# Altium schematic symbol library TI Power Management DC-DC Controller (External Switch).SchLib: 349 symbols (part 7 of 26)
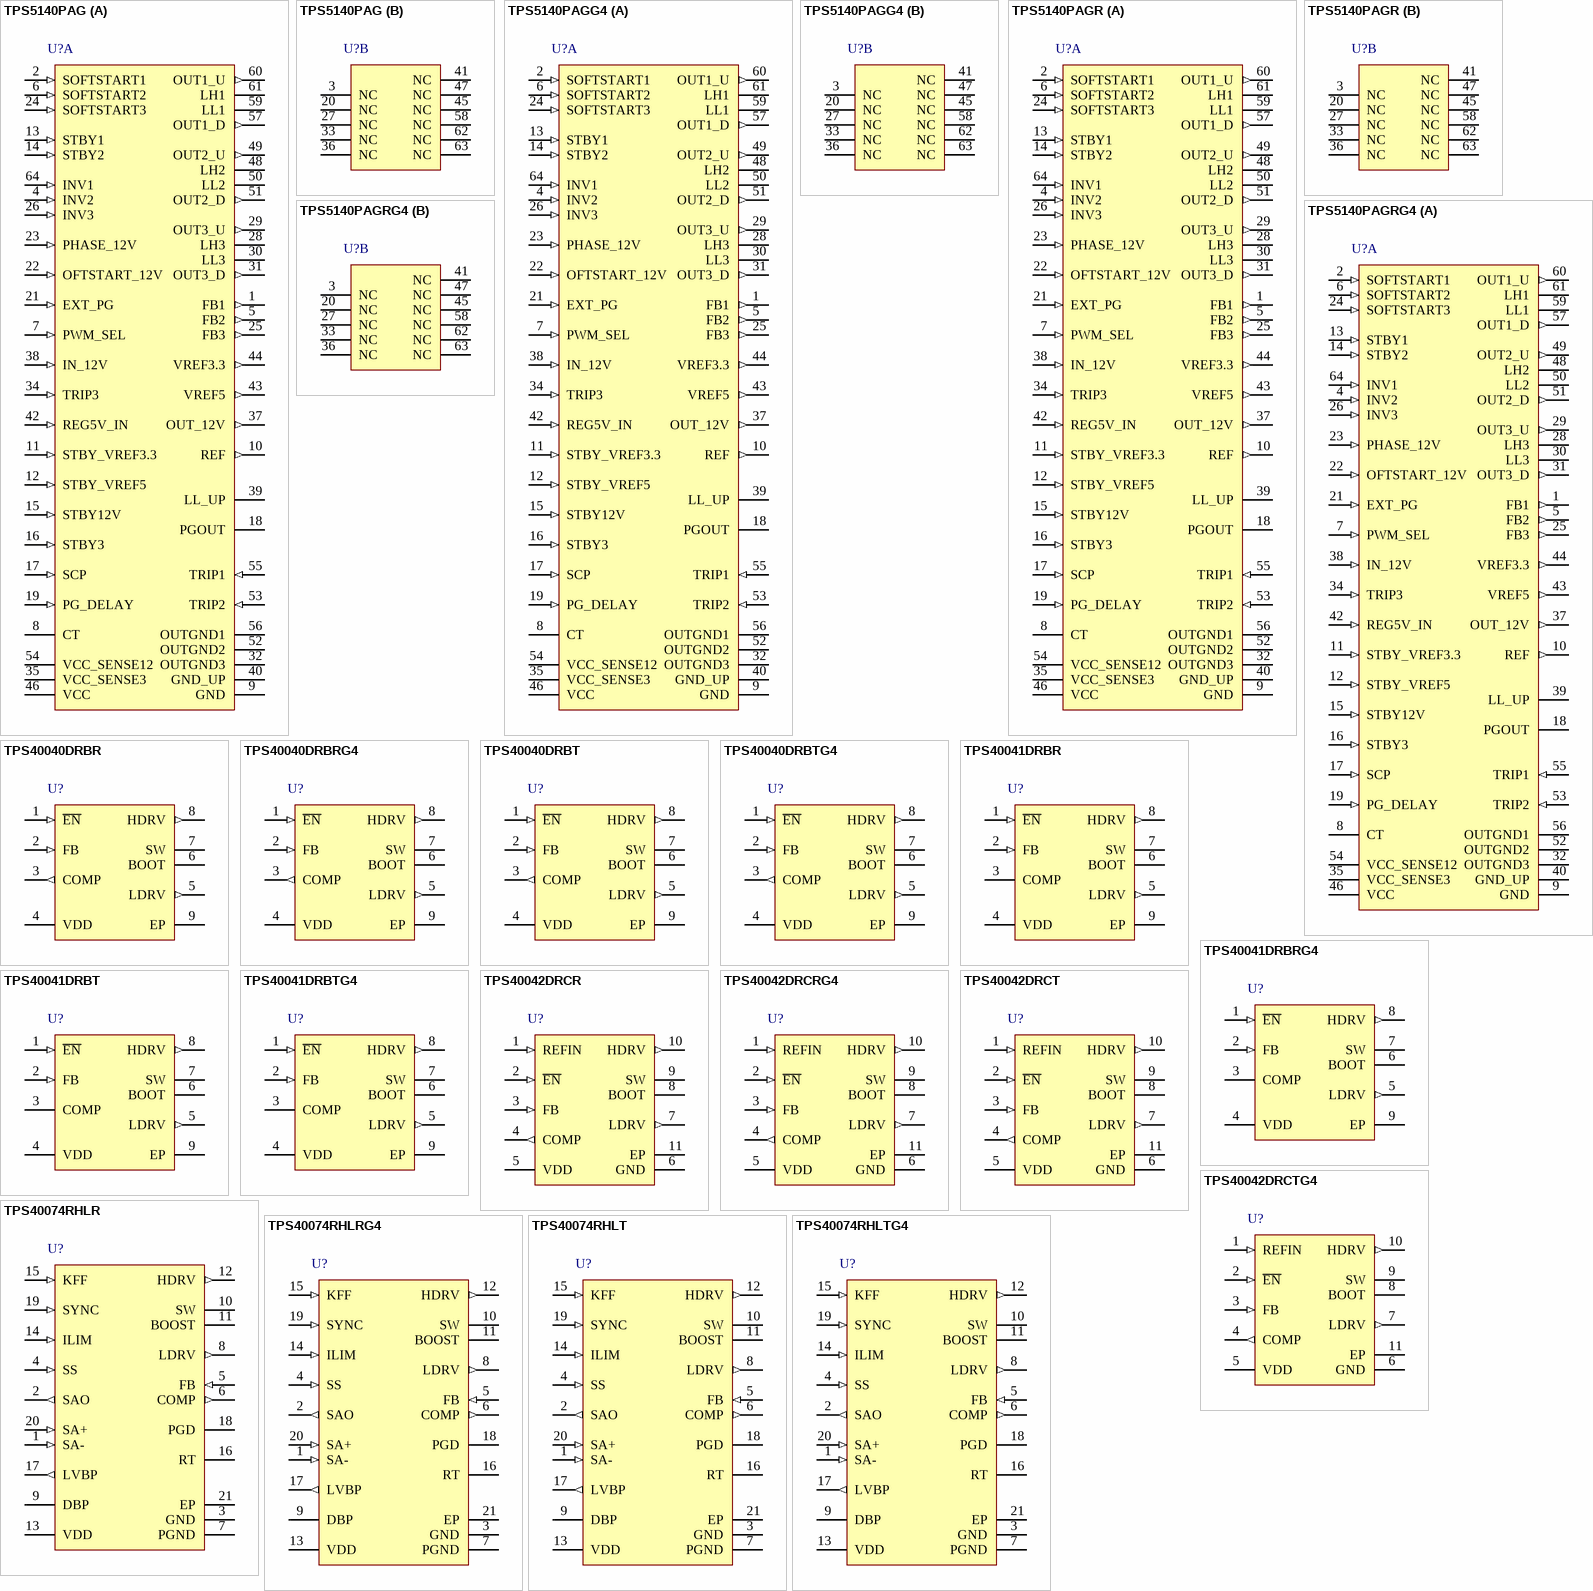
[diagram p20: symbols TPS5140PAG to TPS40074RHLTG4]

## TPS40074RHLRG4
designator U?
Mid Range Input Synchronous Buck Controller with Voltage Feed-Forward, 84 % Duty Cycle, 4.5 to 28 V, -40 to 85 degC, 20-pin QFN (RHL), Green (RoHS & no Sb/Br); Manufacturer: Texas Instruments; PartNumber: TPS40074RHLRG4; Duty Cycle(Max)(%): 84; Iout(Max)(A): 20; Regulated Outputs(#): 1; SubFamily: Step-Down Controller; Switching Frequency(Max)(kHz): 1000; Synchronous Rectification: TRUE; Vin(Max)(V): 28; Vin(Min)(V): 4.5; Vout(Max)(V): 23; Vout(Min)(V): 0.7; DatasheetVersion: SLUS617B; PackageVersion: revJ, Dec-2011; PackageReference: RHL20-3050X2050TP; PackageDescription: 20-Leads Plastic Quad Flatpack No-Lead, 4.5 x 3.5 x 0.9 mm Body, 0.5 mm Pitch, Exposed Pad; Supplier 1: Digi-Key; Supplier Part Number 1: TPS40074RHLRG4-ND; Eco-Plan: Green (RoHS & no Sb/Br); Topology: Buck; Mounting Technology: Surface Mount; ComponentLink1Description: Datasheet; ComponentLink1URL: http://www.ti.com/general/docs/lit/getliterature.tsp?genericPartNumber=TPS40074&fileType=pdf; ComponentLink2Description: Package Specification; ComponentLink2URL: http://www.ti.com/litv/pdf/mpqf155i
footprint RHL20-3050X2050TP (QFN, 20-Leads, Body 4.5x3.5mm, Pitch 0.5mm, Thermal Pad 3.05x2.05mm, TI Recommended)
pins: 1 SA- (in) "Inverting input of the remote voltage sense amplifier.", 2 SAO (out) "Output of the remote voltage sense amplifier.", 3 GND (power) "Ground reference for the device.", 4 SS (in) "Soft-start programming pin. A capacitor connected from this pin to GND programs the soft-start time. The capacitor is charged with an internal current source of 12 uA. The resulting voltage ramp on the SS pin is used as a (See Datasheet)", 5 FB (in) "Inverting input to the error amplifier. In normal operation the voltage on this pin is equal to the internal reference voltage, 0.7 V.", 6 COMP (out) "Output of the error amplifier, input to the PWM comparator. A feedback network is connected from this pin to the FB pin to compensate the overall loop. This pin is internally clamped to a 3.4-V maximum output drive (See Datasheet)", 7 PGND (power) "Power ground reference for the device. There should be a low-impedance path from this pin to the source(s) of the lower MOSFET(s).", 8 LDRV (out) "Gate drive for the N-channel synchronous rectifier. This pin switches from DBP (MOSFET on) to PGND (MOSFET off). For proper operation, the total gate charge of the MOSFET connected to LDRV should be less than 50nC.", 9 DBP (power) "8-V regulator output used for the gate drive of the N-channel synchronous rectifier and as the supply for charging the bootstrap capacitor. This pin should be bypassed to ground with a 1.0-uF ceramic capacitor.", 10 SW (power) "This pin is connected to the switched node of the converter and used for overcurrent sensing as well as gate drive timing. This pin is also the return path from the high-side FET for the floating high-side FET driver. A 1.(See Datasheet)", 11 BOOST (power) "The BOOST voltage is 8-V greater than the input voltage. The peak voltage on BOOST is equal to the SW node voltage plus the voltage present at DBP less the bootstrap diode drop. This drop can be 1.4 V for the internal (See Datasheet)", 12 HDRV (out) "Floating gate drive for the high-side N-channel MOSFET. This pin switches from BOOST (MOSFET on) to SW (MOSFET off).", 13 VDD (power) "Supply voltage for the device.", 14 ILIM (in) "Short circuit protection programming pin. This pin is used to set the overcurrent threshold. An internal current sink from this pin to ground sets a voltage drop across an external resistor connected from this pin to VDD. (See Datasheet)", 15 KFF (in) "A resistor is connected from this pin to VDD programs the amount of input voltage feed-forward. The current fed into this pin is used to control the slope of the PWM ramp and program undervoltage lockout. Nominal voltage at (See Datasheet)", 16 RT "A resistor is connected from this pin to GND to set the switching frequency.", 17 LVBP (out) "4.2-V reference used for internal device logic and analog functions. This pin should be bypassed to GND with a 0.1-uF ceramic capacitor. External loads less than 1 mA and electrically quiet may be applied.", 18 PGD (oc) "This is an open drain output that pulls to ground when soft start is active, or when the FB pin is outside a +/-10% band around the 700 mV reference voltage.", 19 SYNC (in) "Logic input for pulse train to synchronize oscillator.", 20 SA+ (in) "Noninverting input of the remote voltage sense amplifier.", 21 EP (power) "Exposed Thermal Pad"

## TPS40074RHLT
designator U?
Mid Range Input Synchronous Buck Controller with Voltage Feed-Forward, 84 % Duty Cycle, 4.5 to 28 V, -40 to 85 degC, 20-pin QFN (RHL), Green (RoHS & no Sb/Br); Manufacturer: Texas Instruments; PartNumber: TPS40074RHLT; Duty Cycle(Max)(%): 84; Iout(Max)(A): 20; Regulated Outputs(#): 1; SubFamily: Step-Down Controller; Switching Frequency(Max)(kHz): 1000; Synchronous Rectification: TRUE; Vin(Max)(V): 28; Vin(Min)(V): 4.5; Vout(Max)(V): 23; Vout(Min)(V): 0.7; DatasheetVersion: SLUS617B; PackageVersion: revJ, Dec-2011; PackageReference: RHL20-3050X2050TP; PackageDescription: 20-Leads Plastic Quad Flatpack No-Lead, 4.5 x 3.5 x 0.9 mm Body, 0.5 mm Pitch, Exposed Pad; Supplier 1: Digi-Key; Supplier Part Number 1: TPS40074RHLT-ND; Eco-Plan: Green (RoHS & no Sb/Br); Topology: Buck; Mounting Technology: Surface Mount; ComponentLink1Description: Datasheet; ComponentLink1URL: http://www.ti.com/general/docs/lit/getliterature.tsp?genericPartNumber=TPS40074&fileType=pdf; ComponentLink2Description: Package Specification; ComponentLink2URL: http://www.ti.com/litv/pdf/mpqf155i
footprint RHL20-3050X2050TP (QFN, 20-Leads, Body 4.5x3.5mm, Pitch 0.5mm, Thermal Pad 3.05x2.05mm, TI Recommended)
pins: 1 SA- (in) "Inverting input of the remote voltage sense amplifier.", 2 SAO (out) "Output of the remote voltage sense amplifier.", 3 GND (power) "Ground reference for the device.", 4 SS (in) "Soft-start programming pin. A capacitor connected from this pin to GND programs the soft-start time. The capacitor is charged with an internal current source of 12 uA. The resulting voltage ramp on the SS pin is used as a (See Datasheet)", 5 FB (in) "Inverting input to the error amplifier. In normal operation the voltage on this pin is equal to the internal reference voltage, 0.7 V.", 6 COMP (out) "Output of the error amplifier, input to the PWM comparator. A feedback network is connected from this pin to the FB pin to compensate the overall loop. This pin is internally clamped to a 3.4-V maximum output drive (See Datasheet)", 7 PGND (power) "Power ground reference for the device. There should be a low-impedance path from this pin to the source(s) of the lower MOSFET(s).", 8 LDRV (out) "Gate drive for the N-channel synchronous rectifier. This pin switches from DBP (MOSFET on) to PGND (MOSFET off). For proper operation, the total gate charge of the MOSFET connected to LDRV should be less than 50nC.", 9 DBP (power) "8-V regulator output used for the gate drive of the N-channel synchronous rectifier and as the supply for charging the bootstrap capacitor. This pin should be bypassed to ground with a 1.0-uF ceramic capacitor.", 10 SW (power) "This pin is connected to the switched node of the converter and used for overcurrent sensing as well as gate drive timing. This pin is also the return path from the high-side FET for the floating high-side FET driver. A 1.(See Datasheet)", 11 BOOST (power) "The BOOST voltage is 8-V greater than the input voltage. The peak voltage on BOOST is equal to the SW node voltage plus the voltage present at DBP less the bootstrap diode drop. This drop can be 1.4 V for the internal (See Datasheet)", 12 HDRV (out) "Floating gate drive for the high-side N-channel MOSFET. This pin switches from BOOST (MOSFET on) to SW (MOSFET off).", 13 VDD (power) "Supply voltage for the device.", 14 ILIM (in) "Short circuit protection programming pin. This pin is used to set the overcurrent threshold. An internal current sink from this pin to ground sets a voltage drop across an external resistor connected from this pin to VDD. (See Datasheet)", 15 KFF (in) "A resistor is connected from this pin to VDD programs the amount of input voltage feed-forward. The current fed into this pin is used to control the slope of the PWM ramp and program undervoltage lockout. Nominal voltage at (See Datasheet)", 16 RT "A resistor is connected from this pin to GND to set the switching frequency.", 17 LVBP (out) "4.2-V reference used for internal device logic and analog functions. This pin should be bypassed to GND with a 0.1-uF ceramic capacitor. External loads less than 1 mA and electrically quiet may be applied.", 18 PGD (oc) "This is an open drain output that pulls to ground when soft start is active, or when the FB pin is outside a +/-10% band around the 700 mV reference voltage.", 19 SYNC (in) "Logic input for pulse train to synchronize oscillator.", 20 SA+ (in) "Noninverting input of the remote voltage sense amplifier.", 21 EP (power) "Exposed Thermal Pad"

## TPS40074RHLTG4
designator U?
Mid Range Input Synchronous Buck Controller with Voltage Feed-Forward, 84 % Duty Cycle, 4.5 to 28 V, -40 to 85 degC, 20-pin QFN (RHL), Green (RoHS & no Sb/Br); Manufacturer: Texas Instruments; PartNumber: TPS40074RHLTG4; Duty Cycle(Max)(%): 84; Iout(Max)(A): 20; Regulated Outputs(#): 1; SubFamily: Step-Down Controller; Switching Frequency(Max)(kHz): 1000; Synchronous Rectification: TRUE; Vin(Max)(V): 28; Vin(Min)(V): 4.5; Vout(Max)(V): 23; Vout(Min)(V): 0.7; DatasheetVersion: SLUS617B; PackageVersion: revJ, Dec-2011; PackageReference: RHL20-3050X2050TP; PackageDescription: 20-Leads Plastic Quad Flatpack No-Lead, 4.5 x 3.5 x 0.9 mm Body, 0.5 mm Pitch, Exposed Pad; Supplier 1: Digi-Key; Supplier Part Number 1: TPS40074RHLTG4-ND; Eco-Plan: Green (RoHS & no Sb/Br); Topology: Buck; Mounting Technology: Surface Mount; ComponentLink1Description: Datasheet; ComponentLink1URL: http://www.ti.com/general/docs/lit/getliterature.tsp?genericPartNumber=TPS40074&fileType=pdf; ComponentLink2Description: Package Specification; ComponentLink2URL: http://www.ti.com/litv/pdf/mpqf155i
footprint RHL20-3050X2050TP (QFN, 20-Leads, Body 4.5x3.5mm, Pitch 0.5mm, Thermal Pad 3.05x2.05mm, TI Recommended)
pins: 1 SA- (in) "Inverting input of the remote voltage sense amplifier.", 2 SAO (out) "Output of the remote voltage sense amplifier.", 3 GND (power) "Ground reference for the device.", 4 SS (in) "Soft-start programming pin. A capacitor connected from this pin to GND programs the soft-start time. The capacitor is charged with an internal current source of 12 uA. The resulting voltage ramp on the SS pin is used as a (See Datasheet)", 5 FB (in) "Inverting input to the error amplifier. In normal operation the voltage on this pin is equal to the internal reference voltage, 0.7 V.", 6 COMP (out) "Output of the error amplifier, input to the PWM comparator. A feedback network is connected from this pin to the FB pin to compensate the overall loop. This pin is internally clamped to a 3.4-V maximum output drive (See Datasheet)", 7 PGND (power) "Power ground reference for the device. There should be a low-impedance path from this pin to the source(s) of the lower MOSFET(s).", 8 LDRV (out) "Gate drive for the N-channel synchronous rectifier. This pin switches from DBP (MOSFET on) to PGND (MOSFET off). For proper operation, the total gate charge of the MOSFET connected to LDRV should be less than 50nC.", 9 DBP (power) "8-V regulator output used for the gate drive of the N-channel synchronous rectifier and as the supply for charging the bootstrap capacitor. This pin should be bypassed to ground with a 1.0-uF ceramic capacitor.", 10 SW (power) "This pin is connected to the switched node of the converter and used for overcurrent sensing as well as gate drive timing. This pin is also the return path from the high-side FET for the floating high-side FET driver. A 1.(See Datasheet)", 11 BOOST (power) "The BOOST voltage is 8-V greater than the input voltage. The peak voltage on BOOST is equal to the SW node voltage plus the voltage present at DBP less the bootstrap diode drop. This drop can be 1.4 V for the internal (See Datasheet)", 12 HDRV (out) "Floating gate drive for the high-side N-channel MOSFET. This pin switches from BOOST (MOSFET on) to SW (MOSFET off).", 13 VDD (power) "Supply voltage for the device.", 14 ILIM (in) "Short circuit protection programming pin. This pin is used to set the overcurrent threshold. An internal current sink from this pin to ground sets a voltage drop across an external resistor connected from this pin to VDD. (See Datasheet)", 15 KFF (in) "A resistor is connected from this pin to VDD programs the amount of input voltage feed-forward. The current fed into this pin is used to control the slope of the PWM ramp and program undervoltage lockout. Nominal voltage at (See Datasheet)", 16 RT "A resistor is connected from this pin to GND to set the switching frequency.", 17 LVBP (out) "4.2-V reference used for internal device logic and analog functions. This pin should be bypassed to GND with a 0.1-uF ceramic capacitor. External loads less than 1 mA and electrically quiet may be applied.", 18 PGD (oc) "This is an open drain output that pulls to ground when soft start is active, or when the FB pin is outside a +/-10% band around the 700 mV reference voltage.", 19 SYNC (in) "Logic input for pulse train to synchronize oscillator.", 20 SA+ (in) "Noninverting input of the remote voltage sense amplifier.", 21 EP (power) "Exposed Thermal Pad"

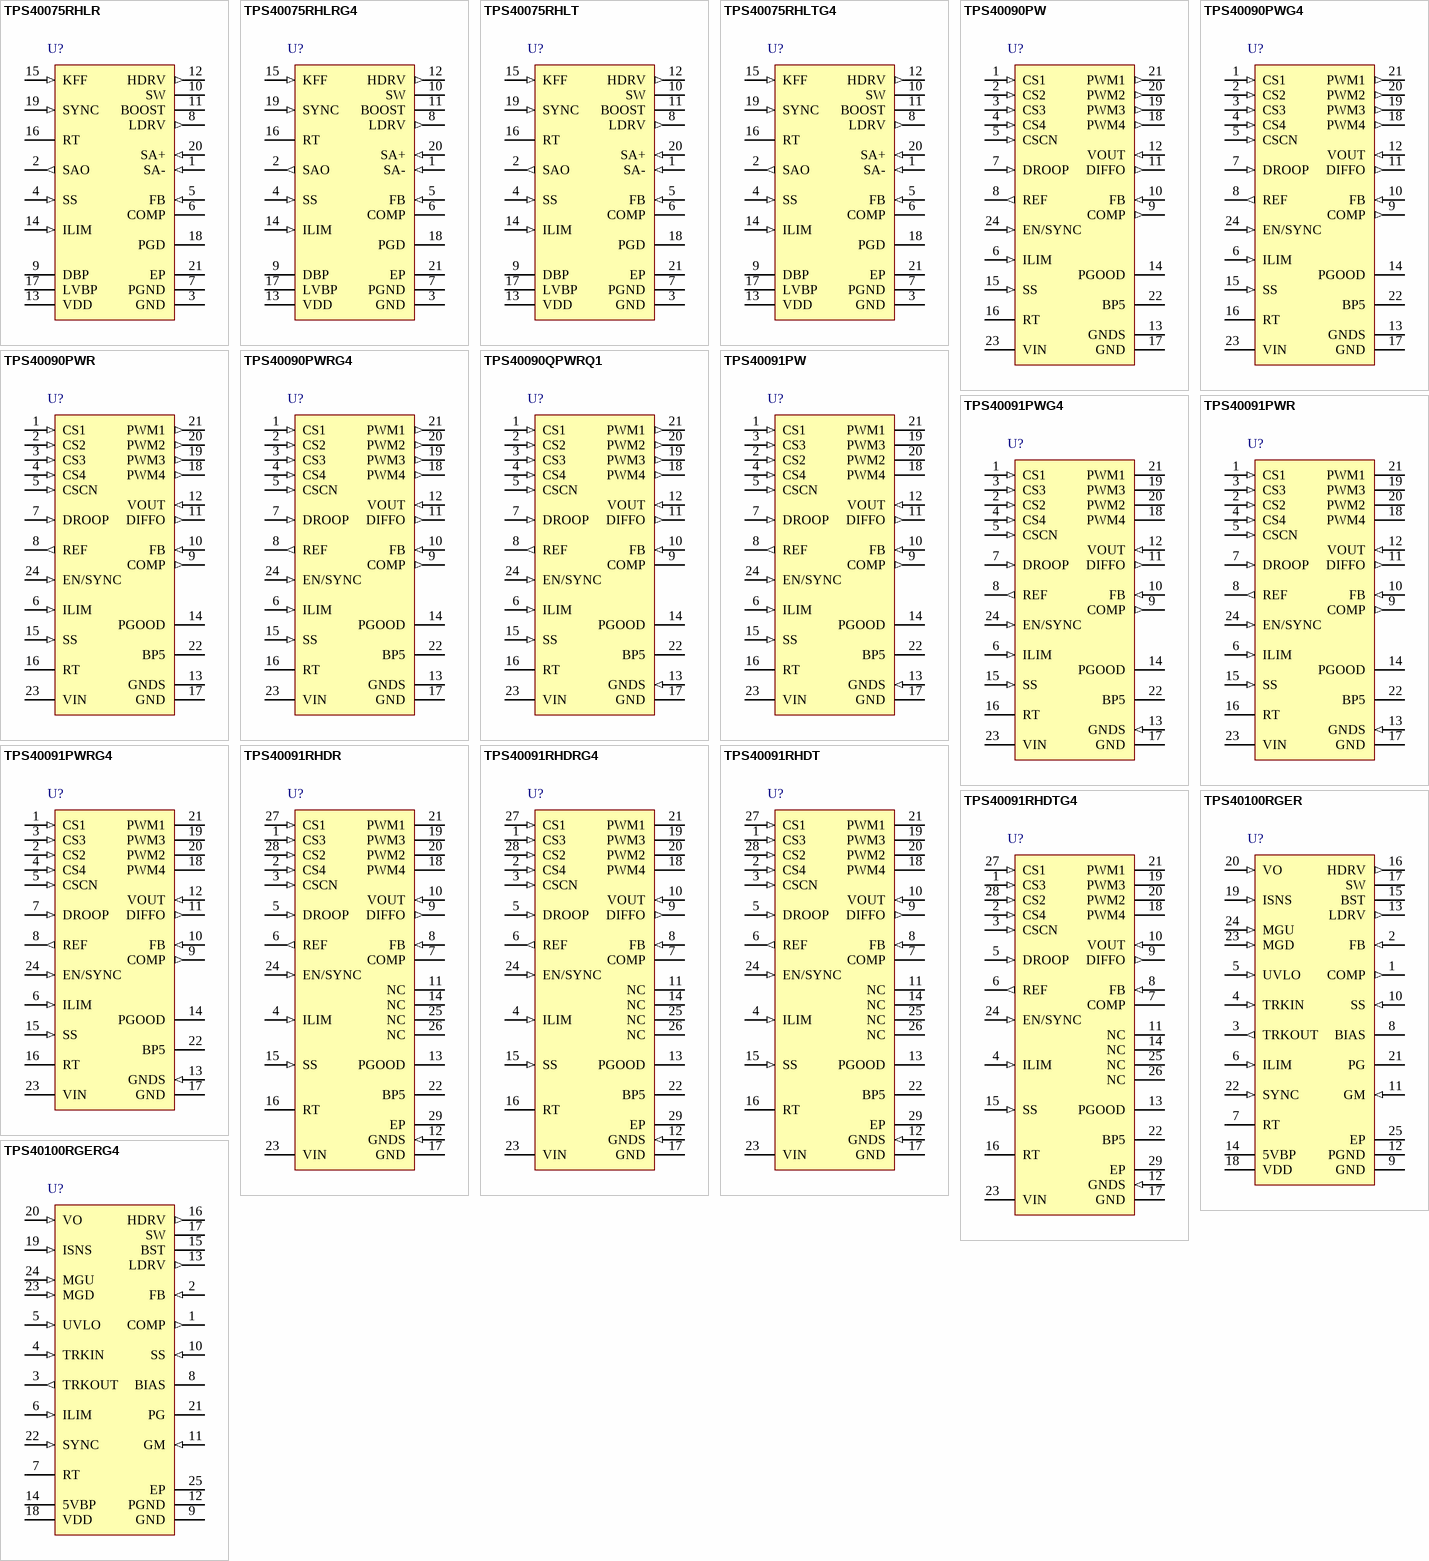
[diagram p5: symbols TPS40075RHLR to TPS40100RGERG4]

## TPS40075RHLR
designator U?
Wide Input Synchronous Buck Controller with Voltage Feed Forward, 84 % Duty Cycle, 4.5 to 28 V, -40 to 85 degC, 20-pin QFN (RHL), Green (RoHS & no Sb/Br); Manufacturer: Texas Instruments; PartNumber: TPS40075RHLR; Duty Cycle(Max)(%): 84; Iout(Max)(A): 20; Regulated Outputs(#): 1; SubFamily: Step-Down Controller; Switching Frequency(Max)(kHz): 1000; Synchronous Rectification: TRUE; Vin(Max)(V): 28; Vin(Min)(V): 4.5; Vout(Max)(V): 23; Vout(Min)(V): 0.7; DatasheetVersion: SLUS676A; PackageVersion: revJ, Dec-2011; PackageReference: RHL20-3050X2050TP; PackageDescription: 20-Leads Plastic Quad Flatpack No-Lead, 4.5 x 3.5 x 0.9 mm Body, 0.5 mm Pitch, Exposed Pad; Supplier 1: Digi-Key; Supplier Part Number 1: TPS40075RHLR-ND; Eco-Plan: Green (RoHS & no Sb/Br); Topology: Buck; Mounting Technology: Surface Mount; ComponentLink1Description: Datasheet; ComponentLink1URL: http://www.ti.com/general/docs/lit/getliterature.tsp?genericPartNumber=TPS40075&fileType=pdf; ComponentLink2Description: Package Specification; ComponentLink2URL: http://www.ti.com/litv/pdf/mpqf155i
footprint RHL20-3050X2050TP (QFN, 20-Leads, Body 4.5x3.5mm, Pitch 0.5mm, Thermal Pad 3.05x2.05mm, TI Recommended)
pins: 1 SA- (in) "Inverting input of the remote voltage sense amplifier.", 2 SAO (out) "Output of the remote voltage sense amplifier.", 3 GND (power) "Ground reference for the device.", 4 SS (in) "Soft-start programming pin. A capacitor connected from this pin to GND programs the soft-start time. The capacitor is charged with an internal current source of 12 uA. The resulting voltage ramp on the SS pin is used as a (See Datasheet)", 5 FB (in) "Inverting input to the error amplifier. In normal operation the voltage on this pin is equal to the internal reference voltage, 0.7 V.", 6 COMP "Output of the error amplifier, input to the PWM comparator. A feedback network is connected from this pin to the FB pin to compensate the overall loop. This pin is internally clamped to a 3.4-V maximum output drive (See Datasheet)", 7 PGND (power) "Power ground reference for the device. There should be a low-impedance path from this pin to the source(s) of the lower MOSFET(s).", 8 LDRV (out) "Gate drive for the N-channel synchronous rectifier. This pin switches from DBP (MOSFET on) to PGND (MOSFET off). For proper operation, the total gate charge of the MOSFET connected to LDRV should be less than 50nC.", 9 DBP (power) "8-V regulator output used for the gate drive of the N-channel synchronous rectifier and as the supply for charging the bootstrap capacitor. This pin should be bypassed to ground with a 1.0-uF ceramic capacitor.", 10 SW (power) "This pin is connected to the switched node of the converter and used for overcurrent sensing as well as gate drive timing. This pin is also the return path from the high-side FET for the floating high-side FET driver. A 1.(See Datasheet)", 11 BOOST (power) "The BOOST voltage is 8-V greater than the input voltage. The peak voltage on BOOST is equal to the SW node voltage plus the voltage present at DBP less the bootstrap diode drop. This drop can be 1.4 V for the internal (See Datasheet)", 12 HDRV (out) "Floating gate drive for the high-side N-channel MOSFET. This pin switches from BOOST (MOSFET on) to SW (MOSFET off).", 13 VDD (power) "Supply voltage for the device.", 14 ILIM (in) "Short circuit protection programming pin. This pin is used to set the overcurrent threshold. An internal current sink from this pin to ground sets a voltage drop across an external resistor connected from this pin to VDD. (See Datasheet)", 15 KFF (in) "A resistor is connected from this pin to VDD programs the amount of input voltage feed-forward. The current fed into this pin is used to control the slope of the PWM ramp and program undervoltage lockout. Nominal voltage at (See Datasheet)", 16 RT "A resistor is connected from this pin to GND to set the switching frequency.", 17 LVBP (power) "4.2-V reference used for internal device logic and analog functions. This pin should be bypassed to GND with a 0.1-uF ceramic capacitor. External loads less than 1 mA and electrically quiet may be applied.", 18 PGD (oc) "This is an open drain output that pulls to ground when soft start is active, or when the FB pin is outside a +/-10% band around the 700 mV reference voltage.", 19 SYNC (in) "Logic input for pulse train to synchronize oscillator.", 20 SA+ (in) "Noninverting input of the remote voltage sense amplifier.", 21 EP "Exposed Thermal Pad."

## TPS40075RHLRG4
designator U?
Wide Input Synchronous Buck Controller with Voltage Feed Forward, 84 % Duty Cycle, 4.5 to 28 V, -40 to 85 degC, 20-pin QFN (RHL), Green (RoHS & no Sb/Br); Manufacturer: Texas Instruments; PartNumber: TPS40075RHLRG4; Duty Cycle(Max)(%): 84; Iout(Max)(A): 20; Regulated Outputs(#): 1; SubFamily: Step-Down Controller; Switching Frequency(Max)(kHz): 1000; Synchronous Rectification: TRUE; Vin(Max)(V): 28; Vin(Min)(V): 4.5; Vout(Max)(V): 23; Vout(Min)(V): 0.7; DatasheetVersion: SLUS676A; PackageVersion: revJ, Dec-2011; PackageReference: RHL20-3050X2050TP; PackageDescription: 20-Leads Plastic Quad Flatpack No-Lead, 4.5 x 3.5 x 0.9 mm Body, 0.5 mm Pitch, Exposed Pad; Supplier 1: Digi-Key; Supplier Part Number 1: TPS40075RHLRG4-ND; Eco-Plan: Green (RoHS & no Sb/Br); Topology: Buck; Mounting Technology: Surface Mount; ComponentLink1Description: Datasheet; ComponentLink1URL: http://www.ti.com/general/docs/lit/getliterature.tsp?genericPartNumber=TPS40075&fileType=pdf; ComponentLink2Description: Package Specification; ComponentLink2URL: http://www.ti.com/litv/pdf/mpqf155i
footprint RHL20-3050X2050TP (QFN, 20-Leads, Body 4.5x3.5mm, Pitch 0.5mm, Thermal Pad 3.05x2.05mm, TI Recommended)
pins: 1 SA- (in) "Inverting input of the remote voltage sense amplifier.", 2 SAO (out) "Output of the remote voltage sense amplifier.", 3 GND (power) "Ground reference for the device.", 4 SS (in) "Soft-start programming pin. A capacitor connected from this pin to GND programs the soft-start time. The capacitor is charged with an internal current source of 12 uA. The resulting voltage ramp on the SS pin is used as a (See Datasheet)", 5 FB (in) "Inverting input to the error amplifier. In normal operation the voltage on this pin is equal to the internal reference voltage, 0.7 V.", 6 COMP "Output of the error amplifier, input to the PWM comparator. A feedback network is connected from this pin to the FB pin to compensate the overall loop. This pin is internally clamped to a 3.4-V maximum output drive (See Datasheet)", 7 PGND (power) "Power ground reference for the device. There should be a low-impedance path from this pin to the source(s) of the lower MOSFET(s).", 8 LDRV (out) "Gate drive for the N-channel synchronous rectifier. This pin switches from DBP (MOSFET on) to PGND (MOSFET off). For proper operation, the total gate charge of the MOSFET connected to LDRV should be less than 50nC.", 9 DBP (power) "8-V regulator output used for the gate drive of the N-channel synchronous rectifier and as the supply for charging the bootstrap capacitor. This pin should be bypassed to ground with a 1.0-uF ceramic capacitor.", 10 SW (power) "This pin is connected to the switched node of the converter and used for overcurrent sensing as well as gate drive timing. This pin is also the return path from the high-side FET for the floating high-side FET driver. A 1.(See Datasheet)", 11 BOOST (power) "The BOOST voltage is 8-V greater than the input voltage. The peak voltage on BOOST is equal to the SW node voltage plus the voltage present at DBP less the bootstrap diode drop. This drop can be 1.4 V for the internal (See Datasheet)", 12 HDRV (out) "Floating gate drive for the high-side N-channel MOSFET. This pin switches from BOOST (MOSFET on) to SW (MOSFET off).", 13 VDD (power) "Supply voltage for the device.", 14 ILIM (in) "Short circuit protection programming pin. This pin is used to set the overcurrent threshold. An internal current sink from this pin to ground sets a voltage drop across an external resistor connected from this pin to VDD. (See Datasheet)", 15 KFF (in) "A resistor is connected from this pin to VDD programs the amount of input voltage feed-forward. The current fed into this pin is used to control the slope of the PWM ramp and program undervoltage lockout. Nominal voltage at (See Datasheet)", 16 RT "A resistor is connected from this pin to GND to set the switching frequency.", 17 LVBP (power) "4.2-V reference used for internal device logic and analog functions. This pin should be bypassed to GND with a 0.1-uF ceramic capacitor. External loads less than 1 mA and electrically quiet may be applied.", 18 PGD (oc) "This is an open drain output that pulls to ground when soft start is active, or when the FB pin is outside a +/-10% band around the 700 mV reference voltage.", 19 SYNC (in) "Logic input for pulse train to synchronize oscillator.", 20 SA+ (in) "Noninverting input of the remote voltage sense amplifier.", 21 EP "Exposed Thermal Pad."

## TPS40075RHLT
designator U?
Wide Input Synchronous Buck Controller with Voltage Feed Forward, 84 % Duty Cycle, 4.5 to 28 V, -40 to 85 degC, 20-pin QFN (RHL), Green (RoHS & no Sb/Br); Manufacturer: Texas Instruments; PartNumber: TPS40075RHLT; Duty Cycle(Max)(%): 84; Iout(Max)(A): 20; Regulated Outputs(#): 1; SubFamily: Step-Down Controller; Switching Frequency(Max)(kHz): 1000; Synchronous Rectification: TRUE; Vin(Max)(V): 28; Vin(Min)(V): 4.5; Vout(Max)(V): 23; Vout(Min)(V): 0.7; DatasheetVersion: SLUS676A; PackageVersion: revJ, Dec-2011; PackageReference: RHL20-3050X2050TP; PackageDescription: 20-Leads Plastic Quad Flatpack No-Lead, 4.5 x 3.5 x 0.9 mm Body, 0.5 mm Pitch, Exposed Pad; Supplier 1: Digi-Key; Supplier Part Number 1: 296-19886-2-ND; Eco-Plan: Green (RoHS & no Sb/Br); Topology: Buck; Mounting Technology: Surface Mount; ComponentLink1Description: Datasheet; ComponentLink1URL: http://www.ti.com/general/docs/lit/getliterature.tsp?genericPartNumber=TPS40075&fileType=pdf; ComponentLink2Description: Package Specification; ComponentLink2URL: http://www.ti.com/litv/pdf/mpqf155i
footprint RHL20-3050X2050TP (QFN, 20-Leads, Body 4.5x3.5mm, Pitch 0.5mm, Thermal Pad 3.05x2.05mm, TI Recommended)
pins: 1 SA- (in) "Inverting input of the remote voltage sense amplifier.", 2 SAO (out) "Output of the remote voltage sense amplifier.", 3 GND (power) "Ground reference for the device.", 4 SS (in) "Soft-start programming pin. A capacitor connected from this pin to GND programs the soft-start time. The capacitor is charged with an internal current source of 12 uA. The resulting voltage ramp on the SS pin is used as a (See Datasheet)", 5 FB (in) "Inverting input to the error amplifier. In normal operation the voltage on this pin is equal to the internal reference voltage, 0.7 V.", 6 COMP "Output of the error amplifier, input to the PWM comparator. A feedback network is connected from this pin to the FB pin to compensate the overall loop. This pin is internally clamped to a 3.4-V maximum output drive (See Datasheet)", 7 PGND (power) "Power ground reference for the device. There should be a low-impedance path from this pin to the source(s) of the lower MOSFET(s).", 8 LDRV (out) "Gate drive for the N-channel synchronous rectifier. This pin switches from DBP (MOSFET on) to PGND (MOSFET off). For proper operation, the total gate charge of the MOSFET connected to LDRV should be less than 50nC.", 9 DBP (power) "8-V regulator output used for the gate drive of the N-channel synchronous rectifier and as the supply for charging the bootstrap capacitor. This pin should be bypassed to ground with a 1.0-uF ceramic capacitor.", 10 SW (power) "This pin is connected to the switched node of the converter and used for overcurrent sensing as well as gate drive timing. This pin is also the return path from the high-side FET for the floating high-side FET driver. A 1.(See Datasheet)", 11 BOOST (power) "The BOOST voltage is 8-V greater than the input voltage. The peak voltage on BOOST is equal to the SW node voltage plus the voltage present at DBP less the bootstrap diode drop. This drop can be 1.4 V for the internal (See Datasheet)", 12 HDRV (out) "Floating gate drive for the high-side N-channel MOSFET. This pin switches from BOOST (MOSFET on) to SW (MOSFET off).", 13 VDD (power) "Supply voltage for the device.", 14 ILIM (in) "Short circuit protection programming pin. This pin is used to set the overcurrent threshold. An internal current sink from this pin to ground sets a voltage drop across an external resistor connected from this pin to VDD. (See Datasheet)", 15 KFF (in) "A resistor is connected from this pin to VDD programs the amount of input voltage feed-forward. The current fed into this pin is used to control the slope of the PWM ramp and program undervoltage lockout. Nominal voltage at (See Datasheet)", 16 RT "A resistor is connected from this pin to GND to set the switching frequency.", 17 LVBP (power) "4.2-V reference used for internal device logic and analog functions. This pin should be bypassed to GND with a 0.1-uF ceramic capacitor. External loads less than 1 mA and electrically quiet may be applied.", 18 PGD (oc) "This is an open drain output that pulls to ground when soft start is active, or when the FB pin is outside a +/-10% band around the 700 mV reference voltage.", 19 SYNC (in) "Logic input for pulse train to synchronize oscillator.", 20 SA+ (in) "Noninverting input of the remote voltage sense amplifier.", 21 EP "Exposed Thermal Pad."

## TPS40075RHLTG4
designator U?
Wide Input Synchronous Buck Controller with Voltage Feed Forward, 84 % Duty Cycle, 4.5 to 28 V, -40 to 85 degC, 20-pin QFN (RHL), Green (RoHS & no Sb/Br); Manufacturer: Texas Instruments; PartNumber: TPS40075RHLTG4; Duty Cycle(Max)(%): 84; Iout(Max)(A): 20; Regulated Outputs(#): 1; SubFamily: Step-Down Controller; Switching Frequency(Max)(kHz): 1000; Synchronous Rectification: TRUE; Vin(Max)(V): 28; Vin(Min)(V): 4.5; Vout(Max)(V): 23; Vout(Min)(V): 0.7; DatasheetVersion: SLUS676A; PackageVersion: revJ, Dec-2011; PackageReference: RHL20-3050X2050TP; PackageDescription: 20-Leads Plastic Quad Flatpack No-Lead, 4.5 x 3.5 x 0.9 mm Body, 0.5 mm Pitch, Exposed Pad; Supplier 1: Digi-Key; Supplier Part Number 1: TPS40075RHLTG4-ND; Eco-Plan: Green (RoHS & no Sb/Br); Topology: Buck; Mounting Technology: Surface Mount; ComponentLink1Description: Datasheet; ComponentLink1URL: http://www.ti.com/general/docs/lit/getliterature.tsp?genericPartNumber=TPS40075&fileType=pdf; ComponentLink2Description: Package Specification; ComponentLink2URL: http://www.ti.com/litv/pdf/mpqf155i
footprint RHL20-3050X2050TP (QFN, 20-Leads, Body 4.5x3.5mm, Pitch 0.5mm, Thermal Pad 3.05x2.05mm, TI Recommended)
pins: 1 SA- (in) "Inverting input of the remote voltage sense amplifier.", 2 SAO (out) "Output of the remote voltage sense amplifier.", 3 GND (power) "Ground reference for the device.", 4 SS (in) "Soft-start programming pin. A capacitor connected from this pin to GND programs the soft-start time. The capacitor is charged with an internal current source of 12 uA. The resulting voltage ramp on the SS pin is used as a (See Datasheet)", 5 FB (in) "Inverting input to the error amplifier. In normal operation the voltage on this pin is equal to the internal reference voltage, 0.7 V.", 6 COMP "Output of the error amplifier, input to the PWM comparator. A feedback network is connected from this pin to the FB pin to compensate the overall loop. This pin is internally clamped to a 3.4-V maximum output drive (See Datasheet)", 7 PGND (power) "Power ground reference for the device. There should be a low-impedance path from this pin to the source(s) of the lower MOSFET(s).", 8 LDRV (out) "Gate drive for the N-channel synchronous rectifier. This pin switches from DBP (MOSFET on) to PGND (MOSFET off). For proper operation, the total gate charge of the MOSFET connected to LDRV should be less than 50nC.", 9 DBP (power) "8-V regulator output used for the gate drive of the N-channel synchronous rectifier and as the supply for charging the bootstrap capacitor. This pin should be bypassed to ground with a 1.0-uF ceramic capacitor.", 10 SW (power) "This pin is connected to the switched node of the converter and used for overcurrent sensing as well as gate drive timing. This pin is also the return path from the high-side FET for the floating high-side FET driver. A 1.(See Datasheet)", 11 BOOST (power) "The BOOST voltage is 8-V greater than the input voltage. The peak voltage on BOOST is equal to the SW node voltage plus the voltage present at DBP less the bootstrap diode drop. This drop can be 1.4 V for the internal (See Datasheet)", 12 HDRV (out) "Floating gate drive for the high-side N-channel MOSFET. This pin switches from BOOST (MOSFET on) to SW (MOSFET off).", 13 VDD (power) "Supply voltage for the device.", 14 ILIM (in) "Short circuit protection programming pin. This pin is used to set the overcurrent threshold. An internal current sink from this pin to ground sets a voltage drop across an external resistor connected from this pin to VDD. (See Datasheet)", 15 KFF (in) "A resistor is connected from this pin to VDD programs the amount of input voltage feed-forward. The current fed into this pin is used to control the slope of the PWM ramp and program undervoltage lockout. Nominal voltage at (See Datasheet)", 16 RT "A resistor is connected from this pin to GND to set the switching frequency.", 17 LVBP (power) "4.2-V reference used for internal device logic and analog functions. This pin should be bypassed to GND with a 0.1-uF ceramic capacitor. External loads less than 1 mA and electrically quiet may be applied.", 18 PGD (oc) "This is an open drain output that pulls to ground when soft start is active, or when the FB pin is outside a +/-10% band around the 700 mV reference voltage.", 19 SYNC (in) "Logic input for pulse train to synchronize oscillator.", 20 SA+ (in) "Noninverting input of the remote voltage sense amplifier.", 21 EP "Exposed Thermal Pad."

## TPS40090PW
designator U?
4 Channel Multiphase Buck DC / DC Controller, 87.5 % Duty Cycle, 4.5 to 15 V, -40 to 85 degC, 24-pin TSSOP (PW), Green (RoHS & no Sb/Br); Manufacturer: Texas Instruments; PartNumber: TPS40090PW; Duty Cycle(Max)(%): 87.5; Iout(Max)(A): 120; Regulated Outputs(#): 1; SubFamily: Multiple-Output Switching Controller; Switching Frequency(Max)(kHz): 1000; Synchronous Rectification: TRUE; Vin(Max)(V): 15; Vin(Min)(V): 4.5; Vout(Max)(V): 3.3; Vout(Min)(V): 0.7; DatasheetVersion: SLUS578B; PackageVersion: revG, Feb-2011; PackageReference: PW24; PackageDescription: 24-Pin Thin Small Outline Package 0.65 mm Pitch; Supplier 1: Digi-Key; Supplier Part Number 1: 296-15881-5-ND; Eco-Plan: Green (RoHS & no Sb/Br); Topology: Multiphase; Mounting Technology: Surface Mount; Code_JEDEC: MO-153; ComponentLink1Description: Datasheet; ComponentLink1URL: http://www.ti.com/general/docs/lit/getliterature.tsp?genericPartNumber=TPS40090&fileType=pdf; ComponentLink2Description: Package Specification; ComponentLink2URL: http://www.ti.com/litv/pdf/mpds177g
footprint PW24_N (TSOP, 24-Leads, Body 7.8x4.4mm, Pitch 0.65mm, IPC Medium Density)
footprint PW24_L (TSOP, 24-Leads, Body 7.8x4.4mm, Pitch 0.65mm, IPC High Density)
footprint PW24_M (TSOP, 24-Leads, Body 7.8x4.4mm, Pitch 0.65mm, IPC Low Density)
pins: 1 CS1 (in) "Used to sense the inductor current in the phases. Inductor current can be sensed with an external current sense resistor or by using an external circuit and the inductor's DC resistance. They are also used for overcurrent (See Datasheet)", 2 CS2 (in) "Used to sense the inductor current in the phases. Inductor current can be sensed with an external current sense resistor or by using an external circuit and the inductor's DC resistance. They are also used for overcurrent (See Datasheet)", 3 CS3 (in) "Used to sense the inductor current in the phases. Inductor current can be sensed with an external current sense resistor or by using an external circuit and the inductor's DC resistance. They are also used for overcurrent (See Datasheet)", 4 CS4 (in) "Used to sense the inductor current in the phases. Inductor current can be sensed with an external current sense resistor or by using an external circuit and the inductor's DC resistance. They are also used for overcurrent (See Datasheet)", 5 CSCN (in) "Common point of current sense resistors or filter inductors", 6 ILIM (in) "Used to set the cycle-by-cycle current limit threshold. If ILIM threshold is reached, the PWM cycle is terminated and the converter delivers limited current to the output. Under these conditions the undervoltage threshold is (See Datasheet)", 7 DROOP (in) "Used to program droop function. A resistor between this pin and the REF pin sets the desired droop value.", 8 REF (out) "Output of an internal 0.7-V reference voltage.", 9 COMP (out) "Output of the error amplifier. The voltage at this pin determines the duty cycle for the PWM.", 10 FB (in) "Inverting input of the error amplifier. In closed loop operation, the voltage at this pin is the internal reference level of 700 mV. This pin is also used for the PGOOD and OVP comparators.", 11 DIFFO (out) "Output of the differential amplifier. The voltage at this pin represents the true output voltage without drops that result from high current in the PCB traces", 12 VOUT (in) "Noninverting input of the differential amplifier. This pin should be connected to VOUT at the point of load.", 13 GNDS (power) "Inverting input of the differential amplifier. This pin should be connected to ground at the point of load.", 14 PGOOD (oc) "Power good indicator of the output voltage. This open-drain output connects to the supply via an external resistor.", 15 SS (in) "Provides user programmable soft-start by means of a capacitor connected to the pin", 16 RT "Connecting a resistor from this pin to ground sets the oscillator frequency.", 17 GND (power) "Ground connection to the device.", 18 PWM4 (out) "Phase shifted PWM outputs which control the external drivers. The high output signal commands a PWM cycle. The low output signal commands controlled conduction of the synchronous rectifiers. These pins are also used to (See Datasheet)", 19 PWM3 (out) "Phase shifted PWM outputs which control the external drivers. The high output signal commands a PWM cycle. The low output signal commands controlled conduction of the synchronous rectifiers. These pins are also used to (See Datasheet)", 20 PWM2 (out) "Phase shifted PWM outputs which control the external drivers. The high output signal commands a PWM cycle. The low output signal commands controlled conduction of the synchronous rectifiers. These pins are also used to (See Datasheet)", 21 PWM1 (out) "Phase shifted PWM outputs which control the external drivers. The high output signal commands a PWM cycle. The low output signal commands controlled conduction of the synchronous rectifiers. These pins are also used to (See Datasheet)", 22 BP5 (power) "Output of an internal 5V regulator. A 4.7-uF capacitor should be connected from this pin to ground. For 5V applications, this pin should be connected to VDD.", 23 VIN (power) "Power input for the chip. De-coupling of this pin is required.", 24 EN/SYNC (in) "A logic high signal on this input enables the controller operation. A pulsing signal to this pin synchronizes the main oscillator to the rising edge of an external clock source. These pulses must be of higher frequency than (See Datasheet)"

## TPS40090PWG4
designator U?
4 Channel Multiphase Buck DC / DC Controller, 87.5 % Duty Cycle, 4.5 to 15 V, -40 to 85 degC, 24-pin TSSOP (PW), Green (RoHS & no Sb/Br); Manufacturer: Texas Instruments; PartNumber: TPS40090PWG4; Duty Cycle(Max)(%): 87.5; Iout(Max)(A): 120; Regulated Outputs(#): 1; SubFamily: Multiple-Output Switching Controller; Switching Frequency(Max)(kHz): 1000; Synchronous Rectification: TRUE; Vin(Max)(V): 15; Vin(Min)(V): 4.5; Vout(Max)(V): 3.3; Vout(Min)(V): 0.7; DatasheetVersion: SLUS578B; PackageVersion: revG, Feb-2011; PackageReference: PW24; PackageDescription: 24-Pin Thin Small Outline Package 0.65 mm Pitch; Supplier 1: Digi-Key; Supplier Part Number 1: TPS40090PWG4-ND; Eco-Plan: Green (RoHS & no Sb/Br); Topology: Multiphase; Mounting Technology: Surface Mount; Code_JEDEC: MO-153; ComponentLink1Description: Datasheet; ComponentLink1URL: http://www.ti.com/general/docs/lit/getliterature.tsp?genericPartNumber=TPS40090&fileType=pdf; ComponentLink2Description: Package Specification; ComponentLink2URL: http://www.ti.com/litv/pdf/mpds177g
footprint PW24_N (TSOP, 24-Leads, Body 7.8x4.4mm, Pitch 0.65mm, IPC Medium Density)
footprint PW24_L (TSOP, 24-Leads, Body 7.8x4.4mm, Pitch 0.65mm, IPC High Density)
footprint PW24_M (TSOP, 24-Leads, Body 7.8x4.4mm, Pitch 0.65mm, IPC Low Density)
pins: 1 CS1 (in) "Used to sense the inductor current in the phases. Inductor current can be sensed with an external current sense resistor or by using an external circuit and the inductor's DC resistance. They are also used for overcurrent (See Datasheet)", 2 CS2 (in) "Used to sense the inductor current in the phases. Inductor current can be sensed with an external current sense resistor or by using an external circuit and the inductor's DC resistance. They are also used for overcurrent (See Datasheet)", 3 CS3 (in) "Used to sense the inductor current in the phases. Inductor current can be sensed with an external current sense resistor or by using an external circuit and the inductor's DC resistance. They are also used for overcurrent (See Datasheet)", 4 CS4 (in) "Used to sense the inductor current in the phases. Inductor current can be sensed with an external current sense resistor or by using an external circuit and the inductor's DC resistance. They are also used for overcurrent (See Datasheet)", 5 CSCN (in) "Common point of current sense resistors or filter inductors", 6 ILIM (in) "Used to set the cycle-by-cycle current limit threshold. If ILIM threshold is reached, the PWM cycle is terminated and the converter delivers limited current to the output. Under these conditions the undervoltage threshold is (See Datasheet)", 7 DROOP (in) "Used to program droop function. A resistor between this pin and the REF pin sets the desired droop value.", 8 REF (out) "Output of an internal 0.7-V reference voltage.", 9 COMP (out) "Output of the error amplifier. The voltage at this pin determines the duty cycle for the PWM.", 10 FB (in) "Inverting input of the error amplifier. In closed loop operation, the voltage at this pin is the internal reference level of 700 mV. This pin is also used for the PGOOD and OVP comparators.", 11 DIFFO (out) "Output of the differential amplifier. The voltage at this pin represents the true output voltage without drops that result from high current in the PCB traces", 12 VOUT (in) "Noninverting input of the differential amplifier. This pin should be connected to VOUT at the point of load.", 13 GNDS (power) "Inverting input of the differential amplifier. This pin should be connected to ground at the point of load.", 14 PGOOD (oc) "Power good indicator of the output voltage. This open-drain output connects to the supply via an external resistor.", 15 SS (in) "Provides user programmable soft-start by means of a capacitor connected to the pin", 16 RT "Connecting a resistor from this pin to ground sets the oscillator frequency.", 17 GND (power) "Ground connection to the device.", 18 PWM4 (out) "Phase shifted PWM outputs which control the external drivers. The high output signal commands a PWM cycle. The low output signal commands controlled conduction of the synchronous rectifiers. These pins are also used to (See Datasheet)", 19 PWM3 (out) "Phase shifted PWM outputs which control the external drivers. The high output signal commands a PWM cycle. The low output signal commands controlled conduction of the synchronous rectifiers. These pins are also used to (See Datasheet)", 20 PWM2 (out) "Phase shifted PWM outputs which control the external drivers. The high output signal commands a PWM cycle. The low output signal commands controlled conduction of the synchronous rectifiers. These pins are also used to (See Datasheet)", 21 PWM1 (out) "Phase shifted PWM outputs which control the external drivers. The high output signal commands a PWM cycle. The low output signal commands controlled conduction of the synchronous rectifiers. These pins are also used to (See Datasheet)", 22 BP5 (power) "Output of an internal 5V regulator. A 4.7-uF capacitor should be connected from this pin to ground. For 5V applications, this pin should be connected to VDD.", 23 VIN (power) "Power input for the chip. De-coupling of this pin is required.", 24 EN/SYNC (in) "A logic high signal on this input enables the controller operation. A pulsing signal to this pin synchronizes the main oscillator to the rising edge of an external clock source. These pulses must be of higher frequency than (See Datasheet)"

## TPS40090PWR
designator U?
4 Channel Multiphase Buck DC / DC Controller, 87.5 % Duty Cycle, 4.5 to 15 V, -40 to 85 degC, 24-pin TSSOP (PW), Green (RoHS & no Sb/Br); Manufacturer: Texas Instruments; PartNumber: TPS40090PWR; Duty Cycle(Max)(%): 87.5; Iout(Max)(A): 120; Regulated Outputs(#): 1; SubFamily: Multiple-Output Switching Controller; Switching Frequency(Max)(kHz): 1000; Synchronous Rectification: TRUE; Vin(Max)(V): 15; Vin(Min)(V): 4.5; Vout(Max)(V): 3.3; Vout(Min)(V): 0.7; DatasheetVersion: SLUS578B; PackageVersion: revG, Feb-2011; PackageReference: PW24; PackageDescription: 24-Pin Thin Small Outline Package 0.65 mm Pitch; Supplier 1: Digi-Key; Supplier Part Number 1: TPS40090PWR-ND; Eco-Plan: Green (RoHS & no Sb/Br); Topology: Multiphase; Mounting Technology: Surface Mount; Code_JEDEC: MO-153; ComponentLink1Description: Datasheet; ComponentLink1URL: http://www.ti.com/general/docs/lit/getliterature.tsp?genericPartNumber=TPS40090&fileType=pdf; ComponentLink2Description: Package Specification; ComponentLink2URL: http://www.ti.com/litv/pdf/mpds177g
footprint PW24_N (TSOP, 24-Leads, Body 7.8x4.4mm, Pitch 0.65mm, IPC Medium Density)
footprint PW24_L (TSOP, 24-Leads, Body 7.8x4.4mm, Pitch 0.65mm, IPC High Density)
footprint PW24_M (TSOP, 24-Leads, Body 7.8x4.4mm, Pitch 0.65mm, IPC Low Density)
pins: 1 CS1 (in) "Used to sense the inductor current in the phases. Inductor current can be sensed with an external current sense resistor or by using an external circuit and the inductor's DC resistance. They are also used for overcurrent (See Datasheet)", 2 CS2 (in) "Used to sense the inductor current in the phases. Inductor current can be sensed with an external current sense resistor or by using an external circuit and the inductor's DC resistance. They are also used for overcurrent (See Datasheet)", 3 CS3 (in) "Used to sense the inductor current in the phases. Inductor current can be sensed with an external current sense resistor or by using an external circuit and the inductor's DC resistance. They are also used for overcurrent (See Datasheet)", 4 CS4 (in) "Used to sense the inductor current in the phases. Inductor current can be sensed with an external current sense resistor or by using an external circuit and the inductor's DC resistance. They are also used for overcurrent (See Datasheet)", 5 CSCN (in) "Common point of current sense resistors or filter inductors", 6 ILIM (in) "Used to set the cycle-by-cycle current limit threshold. If ILIM threshold is reached, the PWM cycle is terminated and the converter delivers limited current to the output. Under these conditions the undervoltage threshold is (See Datasheet)", 7 DROOP (in) "Used to program droop function. A resistor between this pin and the REF pin sets the desired droop value.", 8 REF (out) "Output of an internal 0.7-V reference voltage.", 9 COMP (out) "Output of the error amplifier. The voltage at this pin determines the duty cycle for the PWM.", 10 FB (in) "Inverting input of the error amplifier. In closed loop operation, the voltage at this pin is the internal reference level of 700 mV. This pin is also used for the PGOOD and OVP comparators.", 11 DIFFO (out) "Output of the differential amplifier. The voltage at this pin represents the true output voltage without drops that result from high current in the PCB traces", 12 VOUT (in) "Noninverting input of the differential amplifier. This pin should be connected to VOUT at the point of load.", 13 GNDS (power) "Inverting input of the differential amplifier. This pin should be connected to ground at the point of load.", 14 PGOOD (oc) "Power good indicator of the output voltage. This open-drain output connects to the supply via an external resistor.", 15 SS (in) "Provides user programmable soft-start by means of a capacitor connected to the pin", 16 RT "Connecting a resistor from this pin to ground sets the oscillator frequency.", 17 GND (power) "Ground connection to the device.", 18 PWM4 (out) "Phase shifted PWM outputs which control the external drivers. The high output signal commands a PWM cycle. The low output signal commands controlled conduction of the synchronous rectifiers. These pins are also used to (See Datasheet)", 19 PWM3 (out) "Phase shifted PWM outputs which control the external drivers. The high output signal commands a PWM cycle. The low output signal commands controlled conduction of the synchronous rectifiers. These pins are also used to (See Datasheet)", 20 PWM2 (out) "Phase shifted PWM outputs which control the external drivers. The high output signal commands a PWM cycle. The low output signal commands controlled conduction of the synchronous rectifiers. These pins are also used to (See Datasheet)", 21 PWM1 (out) "Phase shifted PWM outputs which control the external drivers. The high output signal commands a PWM cycle. The low output signal commands controlled conduction of the synchronous rectifiers. These pins are also used to (See Datasheet)", 22 BP5 (power) "Output of an internal 5V regulator. A 4.7-uF capacitor should be connected from this pin to ground. For 5V applications, this pin should be connected to VDD.", 23 VIN (power) "Power input for the chip. De-coupling of this pin is required.", 24 EN/SYNC (in) "A logic high signal on this input enables the controller operation. A pulsing signal to this pin synchronizes the main oscillator to the rising edge of an external clock source. These pulses must be of higher frequency than (See Datasheet)"